# Altium integrated library 103308-2.IntLib: 1 symbol
Pins are listed as number, name and electrical type; pins without a type are passive.

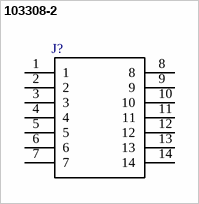
[diagram p0: symbol 103308-2]

## 103308-2
designator J?  (value not drawn)
/ AMP-LATCH 14 Position Through-Hole Dual Row Straight Low Profile Pin Header /; Product_Type: Connector; Number_of_Positions: 14; MF: TE Connectivity; Centerline_Pitch: 2.54 mm[.1 in]; EU_RoHS_Compliance: Not Compliant; SnapEDA_Link: https://www.snapeda.com/parts/103308-2/TE%20Connectivity%20AMP%20Connectors/view-part/504433/?ref=snap; TE_purchase_URL: https://www.te.com/usa-en/product-103308-2.html?te_bu=Cor&te_type=disp&te_campaign=seda_glo_cor-seda-global-disp-prtnr-fy19-seda-model-bom-cta_sma-317_1&elqCampaignId=32493; Digi-Key_Purchase_URL: https://www.digikey.com/product-detail/en/te-connectivity-amp-connectors/103308-2/A26269-ND/289260?utm_source=snapeda&utm_medium=aggregator&utm_campaign=symbol; Digi-Key_Part_Number: A26269-ND; MP: 103308-2; Package: None; Value: *
footprint *TE_103308-2
pins: 1, 2, 3, 4, 5, 6, 7, 8, 9, 10, 11, 12, 13, 14